# EAGLE library part AT45DF (library JLB6_Processor)
Dataflash Atmel AT45 (pin1=SI)
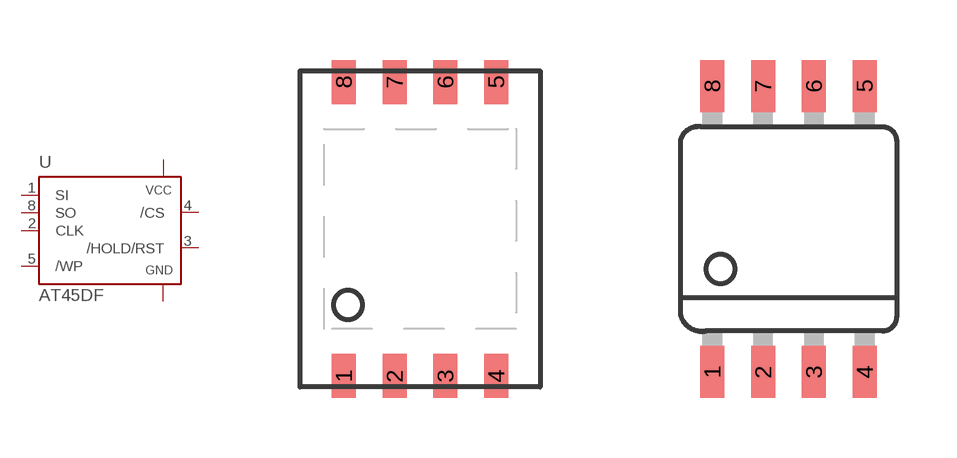
[diagram p26: symbol with the pads of VDFN8_8MM; footprints VDFN8_8MM, SO-08M]

Designator prefix U

## AT45DFVD8MM  [VDFN8_8MM]
1  SI  in
2  CLK  in
3  /HOLD/RST  in
4  /CS  in
5  /WP  pas
6  VCC  pwr
7  GND  pwr
8  SO

## AT45DFSO8  [SO-08M]
Pads as for VDFN8_8MM

## AT45DFVD6MM  [VDFN8_6MM]
Pads as for VDFN8_8MM

## Footprint VDFN8_8MM (pad centres in mm)
smd 0.6 x 1.1: 1 -1.905,-3.68; 2 -0.635,-3.68; 3 0.635,-3.68; 4 1.905,-3.68; 5 1.905,3.68; 6 0.635,3.68; 7 -0.635,3.68; 8 -1.905,3.68

## Footprint SO-08M (pad centres in mm)
Small Outline Medium Plastic Gull Wing 207-mil body, package type SM
smd 0.6 x 1.3: 1 -1.905,-3.58; 2 -0.635,-3.58; 3 0.635,-3.58; 4 1.905,-3.58; 5 1.905,3.58; 6 0.635,3.58; 7 -0.635,3.58; 8 -1.905,3.58

## Footprint VDFN8_6MM (pad centres in mm)
smd 0.6 x 1: 1 -1.905,-2.869; 2 -0.635,-2.869; 3 0.635,-2.869; 4 1.905,-2.869; 5 1.905,2.869; 6 0.635,2.869; 7 -0.635,2.869; 8 -1.905,2.869